# Altium footprint library FIoT_BG961.PcbLib: 13 footprints
Each footprint in its own frame and in the unit in brackets; x right, y up, seen from the top. Pads: shape width x height; smd on the part's side, far side on the other; paste and mask are expansions set on the pad; w line width, h text height; cw(c..) or ccw(c..) is an arc to the next point about the centre after c.
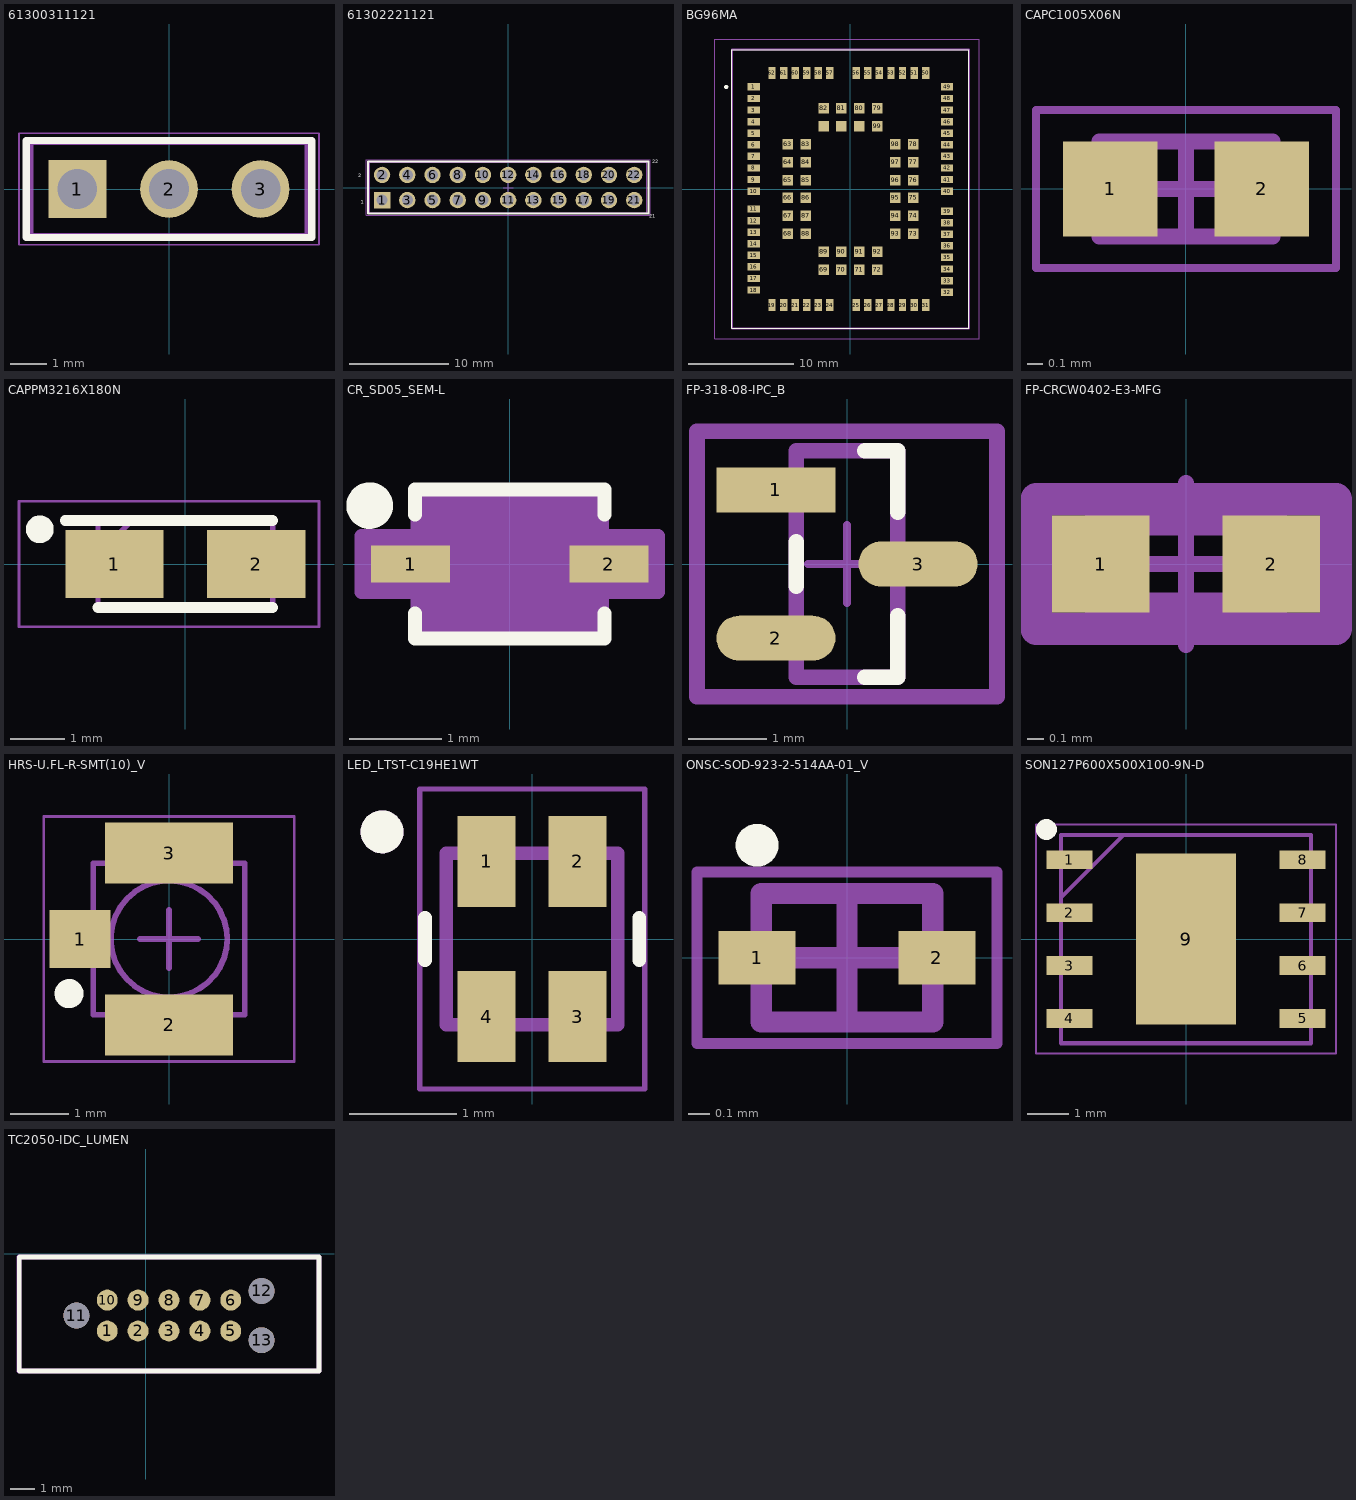
[diagram p0: the footprints below, top view; thin cyan lines are the x and y axes]

## 61300311121 [mm]
pads (3):
  rect 1.6x1.6 hole 1.1: 1(-2.54,0)
  round 1.6 hole 1.1: 2(0,0) 3(2.54,0)
Top Overlay:
  lines w0.2: -3.96,-1.345 3.96,-1.345 3.96,1.345 -3.96,1.345 -3.96,-1.345
Mechanical 13:
  lines w0.1: -3.81,-1.27 -3.81,1.27 3.81,1.27 3.81,-1.27 -3.81,-1.27
Mechanical 15:
  lines w0.05: -0.5,0 0.5,0 ; 0,-0.5 0,0.5 ; -4.16,-1.545 -4.16,1.545 4.16,1.545 4.16,-1.545 -4.16,-1.545
3D body "61300311121.stp": height 8.57, standoff -2.97, extent -3.81,-1.27 3.81,1.27

## 61302221121 [mm]
pads (22):
  rect 1.65x1.65 hole 1.1: 1(-12.7,-1.27)
  round 1.65 hole 1.1: 2(-12.7,1.27) 3(-10.16,-1.27) 4(-10.16,1.27) 5(-7.62,-1.27) 6(-7.62,1.27) 7(-5.08,-1.27) 8(-5.08,1.27) 9(-2.54,-1.27) 10(-2.54,1.27) 11(0,-1.27) 12(0,1.27) 13(2.54,-1.27) 14(2.54,1.27) 15(5.08,-1.27) 16(5.08,1.27) 17(7.62,-1.27) 18(7.62,1.27) 19(10.16,-1.27) 20(10.16,1.27) 21(12.7,-1.27) 22(12.7,1.27)
Top Overlay:
  lines w0.2: -14.12,-2.615 -14.12,2.615 14.12,2.615 14.12,-2.615 -14.12,-2.615
  text "1" at -14.83,-1.8 h0.6
  text "2" at -15.13,0.9 h0.6
  text "21" at 14.2,-3.2 h0.6
  text "22" at 14.5,2.3 h0.6
Mechanical 13:
  lines w0.1: -13.97,-2.54 -13.97,2.54 13.97,2.54 13.97,-2.54 -13.97,-2.54
Mechanical 15:
  lines w0.05: -0.5,0 0.5,0 ; 0,-0.5 0,0.5 ; -14.32,-2.815 14.32,-2.815 14.32,2.815 -14.32,2.815 -14.32,-2.815
3D body "61302221121.stp": height 8.59, standoff -2.95, extent -13.97,-2.54 13.97,2.54

## BG96MA [mm]
pads (102):
  rect 1.15x0.7 smd: 1(-9.18,9.7) 2(-9.18,8.6) 3(-9.18,7.5) 4(-9.18,6.4) 5(-9.18,5.3) 6(-9.18,4.2) 7(-9.18,3.1) 8(-9.18,2) 9(-9.18,0.9) 10(-9.18,-0.2) 11(-9.18,-1.9) 12(-9.18,-3) 13(-9.18,-4.1) 14(-9.18,-5.2) 15(-9.18,-6.3) 16(-9.18,-7.4) 17(-9.18,-8.5) 18(-9.18,-9.6) 32(9.18,-9.8) 33(9.18,-8.7) 34(9.18,-7.6) 35(9.18,-6.5) 36(9.18,-5.4) 37(9.18,-4.3) 38(9.18,-3.2) 39(9.18,-2.1) 40(9.18,-0.2) 41(9.18,0.9) 42(9.18,2) 43(9.18,3.1) 44(9.18,4.2) 45(9.18,5.3) 46(9.18,6.4) 47(9.18,7.5) 48(9.18,8.6) 49(9.18,9.7)
  rect 0.7x1.15 smd: 19(-7.45,-11.025) 20(-6.35,-11.025) 21(-5.25,-11.025) 22(-4.15,-11.025) 23(-3.05,-11.025) 24(-1.95,-11.025) 25(0.55,-11.025) 26(1.65,-11.025) 27(2.75,-11.025) 28(3.85,-11.025) 29(4.95,-11.025) 30(6.05,-11.025) 31(7.15,-11.025) 50(7.15,11.025) 51(6.05,11.025) 52(4.95,11.025) 53(3.85,11.025) 54(2.75,11.025) 55(1.65,11.025) 56(0.55,11.025) 57(-1.95,11.025) 58(-3.05,11.025) 59(-4.15,11.025) 60(-5.25,11.025) 61(-6.35,11.025) 62(-7.45,11.025)
  rect 1x1 smd: 63(-5.95,4.25) 64(-5.95,2.55) 65(-5.95,0.85) 66(-5.95,-0.85) 67(-5.95,-2.55) 68(-5.95,-4.25) 69(-2.55,-7.65) 70(-0.85,-7.65) 71(0.85,-7.65) 72(2.55,-7.65) 73(5.95,-4.25) 74(5.95,-2.55) 75(5.95,-0.85) 76(5.95,0.85) 77(5.95,2.55) 78(5.95,4.25) 79(2.55,7.65) 80(0.85,7.65) 81(-0.85,7.65) 82(-2.55,7.65) 83(-4.25,4.25) 84(-4.25,2.55) 85(-4.25,0.85) 86(-4.25,-0.85) 87(-4.25,-2.55) 88(-4.25,-4.25) 89(-2.55,-5.95) 90(-0.85,-5.95) 91(0.85,-5.95) 92(2.55,-5.95) 93(4.25,-4.25) 94(4.25,-2.55) 95(4.25,-0.85) 96(4.25,0.85) 97(4.25,2.55) 98(4.25,4.25) 99(2.55,5.95) 100(0.85,5.95) 101(-0.85,5.95) 102(-2.55,5.95)
Top Overlay:
  lines w0.1: -11.25,-13.25 -11.25,13.25 11.25,13.25 11.25,-13.25 -11.25,-13.25
  lines w0.2: -11.8,9.6 cw(c-11.8,9.7) -11.8,9.8 cw(c-11.8,9.7) -11.8,9.6
Mechanical 13:
  lines w0.2: -11.25,-13.25 -11.25,13.25 11.25,13.25 11.25,-13.25 -11.25,-13.25
Mechanical 15:
  lines w0.1: -12.9,-14.25 -12.9,14.25 ; -12.9,-14.25 12.25,-14.25 ; -12.9,-14.25 -12.9,14.25 ; -12.9,-14.25 12.25,-14.25 ; -12.9,14.25 12.25,14.25 ; -12.9,14.25 12.25,14.25 ; 12.25,-14.25 12.25,14.25 ; 12.25,-14.25 12.25,14.25
3D body "BG96.STEP": height 2.51, standoff 0.01, extent -11.303,-13.208 11.197,13.292

## CAPC1005X06N [mm]
pads (2):
  rect 0.6x0.6 smd: 1(-0.48,0) 2(0.48,0)
Top Courtyard:
  lines w0.05: -0.95,-0.5 0.95,-0.5 0.95,0.5 -0.95,0.5 -0.95,-0.5
  lines w0.1: -0.3,0 0.3,0 ; 0,-0.3 0,0.3
Top Assembly:
  lines w0.1: -0.55,-0.3 0.55,-0.3 0.55,0.3 -0.55,0.3 -0.55,-0.3
3D body "CAPC1005X06N.step": height 0.6, standoff 0, extent -0.55,-0.3 0.55,0.3

## CAPPM3216X180N [mm]
pads (2):
  rect 1.8x1.25 smd: 1(-1.3,0) 2(1.3,0)
Top Overlay:
  circle w0.254: c-2.667,0.635 r0.127
  lines w0.2: -2.2,0.8 1.6,0.8 ; -1.6,-0.8 1.6,-0.8
Mechanical 13:
  lines w0.1: -1.6,0.175 -0.975,0.8 ; -1.6,-0.8 1.6,-0.8 1.6,0.8 -1.6,0.8 -1.6,-0.8
Mechanical 15:
  lines w0.05: -3.048,-1.15 2.45,-1.15 2.45,1.15 -3.048,1.15 -3.048,-1.15
3D body "T520A107M006ATE035.stp": height 1.8, standoff 0, extent -1.6,-0.8 1.6,0.8

## CR_SD05_SEM-L [mil]
pads (2):
  rect 34x16 smd paste+0 mask+0: 1(-42.5,0) 2(42.5,0)
Top Overlay:
  circle w10: c-60,25 r5
  lines w6: -40.5,-21.1 -40.5,-32 40.5,-32 40.5,-21.1 ; -40.5,21.1 -40.5,32 40.5,32 40.5,21.1
Mechanical 13:
  lines w1: -35.5,-13.5 -22,-27 ; -35.5,13.5 -22,27 ; -53.5,-8 -35.5,-8 -35.5,8 -53.5,8 -53.5,-8 ; -35.5,-27 -35.5,27 35.5,27 35.5,-27 -35.5,-27 ; 35.5,-8 53.5,-8 53.5,8 35.5,8 35.5,-8
  text "*" at -38,-25 h50
Mechanical 15:
  region: -39.5,-12 -63.5,-12 -63.5,12 -39.5,12 -39.5,31 39.5,31 39.5,12 63.5,12 63.5,-12 39.5,-12 39.5,-31 -39.5,-31
  lines w6: -63.5,-12 -39.5,-12 -39.5,-31 39.5,-31 39.5,-12 63.5,-12 63.5,12 39.5,12 39.5,31 -39.5,31 -39.5,12 -63.5,12 -63.5,-12
3D body "CR_SD05_SEM.step": height 43.11, standoff 0, extent -53.5,-27.01 53.5,27.01

## FP-318-08-IPC_B [mm]
pads (3):
  rect 1.524x0.578 smd paste+0 mask+0: 1(-0.91,0.95)
  rrect100% 1.524x0.578 smd paste+0 mask+0: 2(-0.91,-0.95) 3(0.91,0)
Top Overlay:
  lines w0.2: -0.65,-0.286 -0.65,0.286 ; 0.227,-1.45 0.65,-1.45 0.65,-0.664 ; 0.227,1.45 0.65,1.45 0.65,0.664
Top 3D Body:
  lines w0.2: -0.65,-1.45 0.65,-1.45 0.65,1.45 -0.65,1.45 -0.65,-1.45
Top Courtyard:
  lines w0.2: -1.922,-1.7 1.922,-1.7 1.922,1.7 -1.922,1.7 -1.922,-1.7
Top Assembly:
  lines w0.2: -1.922,-1.7 1.922,-1.7 1.922,1.7 -1.922,1.7 -1.922,-1.7
  text ".Designator" at 0,0 h1
Top Component Center:
  lines w0.1: -0.5,0 0.5,0 ; 0,-0.5 0,0.5
3D body "IC_ON_Semiconductor_NUD3112LT1G_eec.STEP": height 1.11, standoff 0, extent -1.2,-1.45 1.2,1.45

## FP-CRCW0402-E3-MFG [mm]
pads (2):
  rect 0.6x0.6 smd paste+0 mask+0: 1(-0.525,0) 2(0.525,0)
Top 3D Body:
  lines w0.2: -0.525,-0.275 -0.525,0.275 0.525,0.275 0.525,-0.275 -0.525,-0.275
Top Courtyard:
  lines w0.2: -0.925,-0.4 -0.925,0.4 0.925,0.4 0.925,-0.4 -0.925,-0.4
Top Assembly:
  lines w0.2: -0.925,-0.4 -0.925,0.4 0.925,0.4 0.925,-0.4 -0.925,-0.4
  text ".Designator" at -0.525,-0.087 h1
Top Component Center:
  lines w0.1: -0.5,0 0.5,0 ; 0,-0.5 0,0.5
3D body "Res_Vishay_CRCW04021K00FKED_eec.STEP": height 0.4, standoff 0, extent -0.5,-0.25 0.5,0.25

## HRS-U.FL-R-SMT(10)_V [mm]
pads (3):
  rect 1.05x1 smd: 1(-1.525,0)
  rect 2.2x1.05 smd: 2(0,-1.475) 3(0,1.475)
Top Overlay:
  circle w0.25: c-1.715,-0.938 r0.125
Mechanical 13:
  circle w0.1: c0,0 r1
  lines w0.1: -1.3,-1.3 1.3,-1.3 1.3,1.3 -1.3,1.3 -1.3,-1.3
Mechanical 15:
  lines w0.05: -2.15,-2.1 -2.15,2.1 2.15,2.1 2.15,-2.1 -2.15,-2.1
  lines w0.1: -0.5,0 0.5,0 ; 0,-0.5 0,0.5
3D body: height 1.25, standoff 0, extent -0.999,-1 0.999,0.999
3D body: height 0.35, standoff 0, extent -1.3,-1.3 1.3,1.3

## LED_LTST-C19HE1WT [mm]
pads (4):
  rect 0.54x0.85 smd: 1(-0.425,0.725) 2(0.425,0.725) 3(0.425,-0.725) 4(-0.425,-0.725)
Top Overlay:
  circle w0.2: c-1.4,1 r0.1
  lines w0.127: -1,-0.2 -1,0.2 ; 1,-0.2 1,0.2
Mechanical 13:
  circle w0.2: c-1.4,1 r0.1
  lines w0.127: -0.8,-0.8 -0.8,0.8 0.8,0.8 0.8,-0.8 -0.8,-0.8
Mechanical 15:
  lines w0.05: -1.05,-1.4 -1.05,1.4 1.05,1.4 1.05,-1.4 -1.05,-1.4
3D body "LTST-C19HE1WT--3DModel-STEP-56544.STEP": height 0.36, standoff 0.01, extent -0.8,-0.8 0.8,0.8

## ONSC-SOD-923-2-514AA-01_V [mm]
pads (2):
  rect 0.36x0.25 smd: 1(-0.42,0) 2(0.42,0)
Top Overlay:
  circle w0.1: c-0.42,0.525 r0.05
Mechanical 13:
  lines w0.1: -0.4,-0.3 -0.4,0.3 0.4,0.3 0.4,-0.3 -0.4,-0.3
Mechanical 15:
  lines w0.05: -0.7,-0.4 -0.7,0.4 0.7,0.4 0.7,-0.4 -0.7,-0.4
  lines w0.1: -0.25,0 0.25,0 ; 0,-0.25 0,0.25
3D body: height 0.43, standoff 0, extent -0.4,-0.3 0.4,0.3

## SON127P600X500X100-9N-D [mm]
pads (9):
  rect 1.1x0.45 smd: 1(-2.8,1.905) 2(-2.8,0.635) 3(-2.8,-0.635) 4(-2.8,-1.905) 5(2.8,-1.905) 6(2.8,-0.635) 7(2.8,0.635) 8(2.8,1.905)
  rect 2.4x4.1 smd: 9(0,0)
Top Overlay:
  circle w0.25: c-3.35,2.63 r0.125
Mechanical 13:
  lines w0.1: -3,1 -1.5,2.5 ; -3,-2.5 3,-2.5 3,2.5 -3,2.5 -3,-2.5
Mechanical 15:
  lines w0.05: -3.6,-2.75 3.6,-2.75 3.6,2.75 -3.6,2.75 -3.6,-2.75
3D body "25LC1024T-I_MF.stp": height 1, standoff 0, extent -3.05,-2.5 3.05,2.5

## TC2050-IDC_LUMEN [mil]
pads (13):
  round 34 smd: 1(-62.5,-125) 2(-12.5,-125) 3(37.5,-125) 4(87.5,-125) 5(137.5,-125) 6(137.5,-75) 7(87.5,-75) 8(37.5,-75) 9(-12.5,-75) 10(-62.5,-75)
  round 42 hole 42 unplated: 11(-112.5,-100) 12(187.5,-60.04) 13(187.5,-139.96)
Top Overlay:
  lines w7.87: -205,-190 -205,-5 280.41,-5 280.41,-190 -205,-190
Mechanical 13:
  lines w7.87: -205.41,-190 280.41,-190 280.41,-5 -205.41,-5 -205.41,-190